# Altium schematic symbol library CON_LIB.SchLib: 13 symbols
Pins are listed as number, name and electrical type; pins without a type are passive.

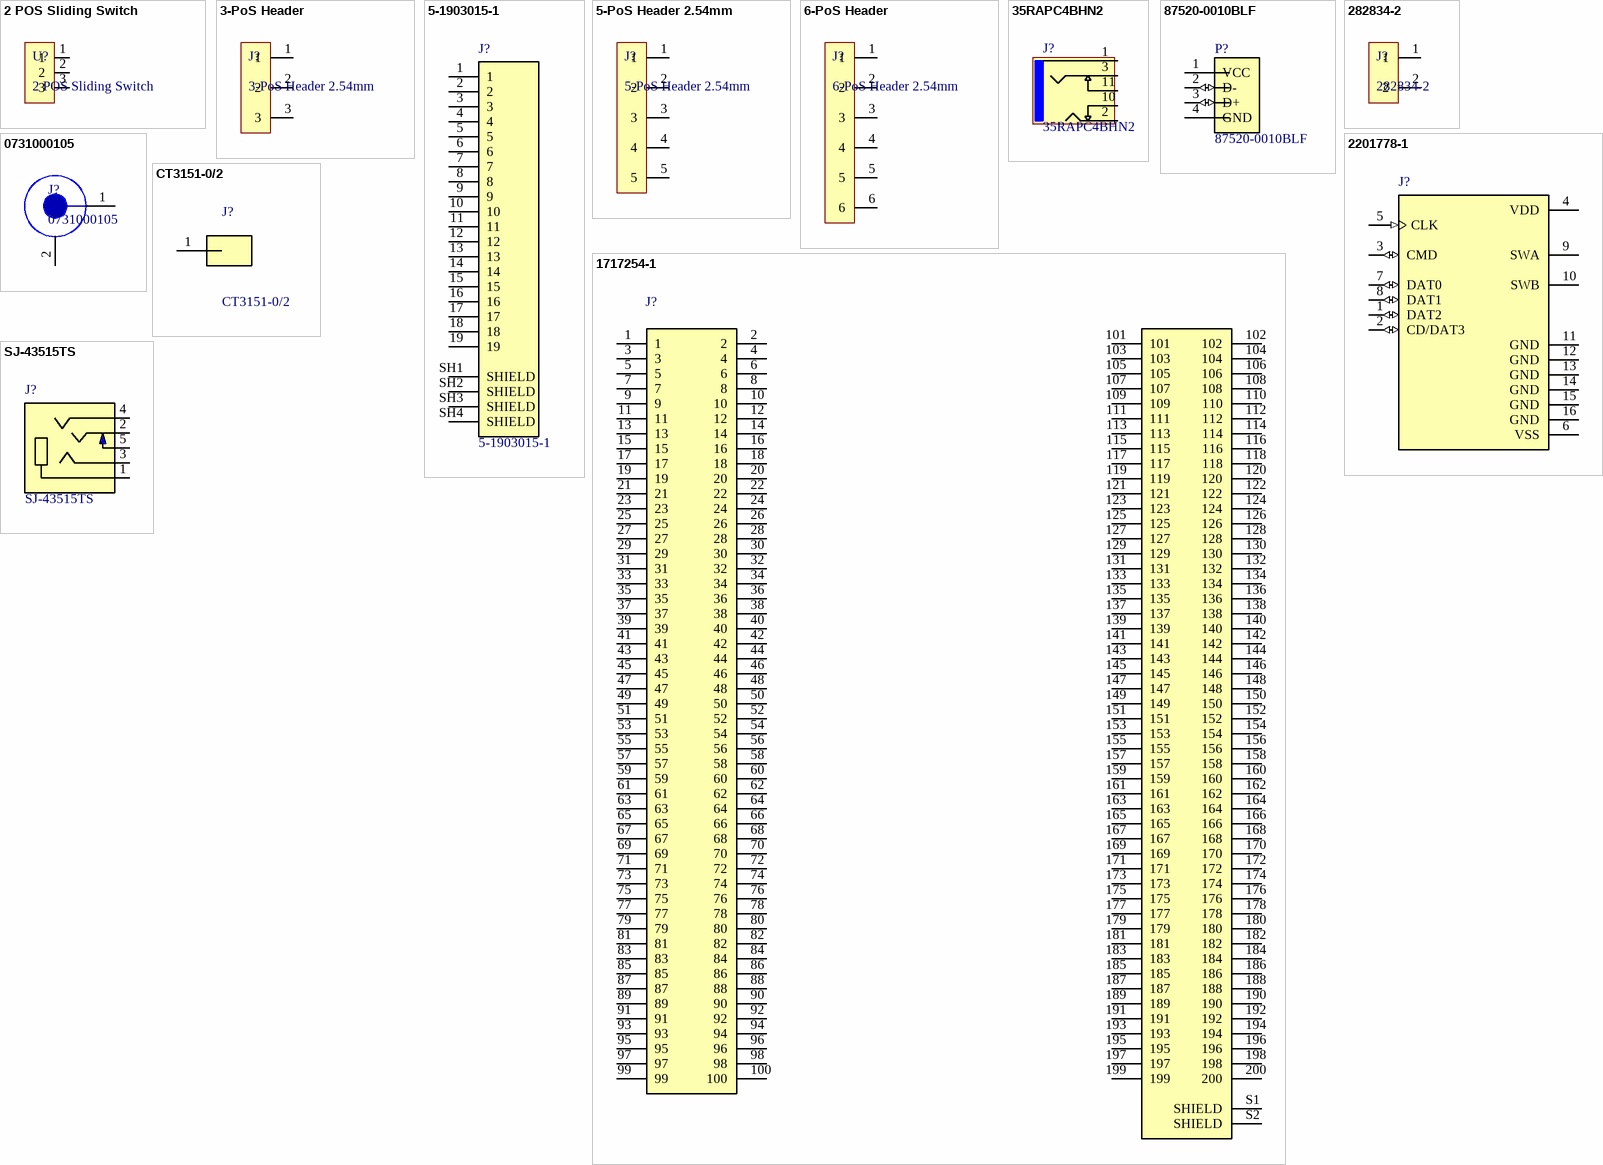
[diagram p0: symbols 2 POS Sliding Switch to SJ-43515TS]

## 2 POS Sliding Switch
designator U?
footprint 2 POS Sliding switch
pins: 1, 2, 3

## 3-PoS Header
designator J?, comment 3-PoS Header 2.54mm
footprint 3-POS 2.54mm Pitch Header - duplicate (2.54mm Pitch Header)
pins: 1, 2, 3

## 5-1903015-1
designator J?
Conn HDMI RCP 19 POS 0.5mm Solder RA SMD 19 Terminal 1 Port Embossed T/R; MF: TE Connectivity; Availability: Good; EU_RoHS_Compliance: Compliant; Price: 1.43 USD; Package: None; SnapEDA_Link: https://www.snapeda.com/parts/5-1903015-1/TE%20Connectivity%20AMP%20Connectors/view-part/?ref=snap; MP: 5-1903015-1; Link: http://www.te.com/usa-en/product-5-1903015-1.html; Value: *
footprint TE_5-1903015-1_5-1903015-1(Primary)
pins: 1, 2, 3, 4, 5, 6, 7, 8, 9, 10, 11, 12, 13, 14, 15, 16, 17, 18, 19, SH1 SHIELD, SH2 SHIELD, SH3 SHIELD, SH4 SHIELD

## 5-PoS Header 2.54mm
designator J?
footprint 2.54mm Pitch Header
pins: 1, 2, 3, 4, 5

## 6-PoS Header
designator J?, comment 6-PoS Header 2.54mm
footprint 6-POS 2.54mm Pitch Header - duplicate - duplicate (2.54mm Pitch Header)
pins: 1, 2, 3, 4, 5, 6

## 35RAPC4BHN2
designator J?
Conn 3.5MM Stereo Jack F 5 POS Solder RA Thru-Hole 5 Terminal 1 Port; MF: Switchcraft; MP: 35RAPC4BHN2; Availability: Good; Package: None; Price: 0.98 USD; SnapEDA_Link: https://www.snapeda.com/parts/35RAPC4BHN2/Switchcraft%20Inc./view-part/?ref=snap; Value: *
footprint SWITCHCRAFT_35RAPC4BHN2
footprint SWITCHCRAFT_35RAPC4BHN2
pins: 1 SLEEVE, 2 TIP, 3 RING, 10 TSH, 11 RSH

## 87520-0010BLF
designator P?
87520 Series Single Port 4 Contact Unshielded Board Lock USB-A Receptacle; MF: Amphenol ICC; Digi-Key_Purchase_URL: https://www.digikey.com/product-detail/en/amphenol-fci/87520-0010BLF/609-1045-ND/1001359?utm_source=snapeda&utm_medium=aggregator&utm_campaign=symbol; Digi-Key_Part_Number: 609-1045-ND; Package: None; SnapEDA_Link: https://www.snapeda.com/parts/87520-0010BLF/Amphenol%20ICC/view-part/?ref=snap; MP: 87520-0010BLF; Value: *
footprint FCI_87520-0010BLF
footprint FCI_87520-0010BLF
pins: 1 VCC (power), 2 D- (io), 3 D+ (io), 4 GND (power)

## 282834-2
designator J?
TERM BLK 2P SIDE ENT 2.54MM PCB
footprint 282834-2 (2 Position Wire to Board Terminal Block Horizonta)
pins: 1, 2

## 1717254-1
designator J?  (value not drawn)
EMBOSS ASS'Y DDR SODIMM SOCKET; Centerline_Pitch: .6 mm[.024 in]; MF: TE Connectivity; Number_of_Positions: 200; Product_Type: Socket; EU_RoHS_Compliance: Compliant; Digi-Key_Part_Number: A111047CT-ND; Package: None; Digi-Key_Purchase_URL: https://www.digikey.com/product-detail/en/te-connectivity-amp-connectors/1717254-1/A111047CT-ND/4142431?utm_source=snapeda&utm_medium=aggregator&utm_campaign=symbol; SnapEDA_Link: https://www.snapeda.com/parts/1717254-1/TE%20Connectivity%20AMP%20Connectors/view-part/?ref=snap; MP: 1717254-1; Link: http://www.te.com/usa-en/product-1717254-1.html; Value: *
footprint TE_1717254-1_1717254-1(Primary)
pins: 1, 2, 3, 4, 5, 6, 7, 8, 9, 10, 11, 12, 13, 14, 15, 16, 17, 18, 19, 20, 21, 22, 23, 24, 25, 26, 27, 28, 29, 30, 31, 32, 33, 34, 35, 36, 37, 38, 39, 40, 41, 42, 43, 44, 45, 46, 47, 48, 49, 50, 51, 52, 53, 54, 55, 56, 57, 58, 59, 60, 61, 62, 63, 64, 65, 66, 67, 68, 69, 70, 71, 72, 73, 74, 75, 76, 77, 78, 79, 80, 81, 82, 83, 84, 85, 86, 87, 88, 89, 90, 91, 92, 93, 94, 95, 96, 97, 98, 99, 100, 101, 102, 103, 104, 105, 106, 107, 108, 109, 110, 111, 112, 113, 114, 115, 116, 117, 118, 119, 120, 121, 122, 123, 124, 125, 126, 127, 128, 129, 130, 131, 132, 133, 134, 135, 136, 137, 138, 139, 140, 141, 142, 143, 144, 145, 146, 147, 148, 149, 150, 151, 152, 153, 154, 155, 156, 157, 158, 159, 160, 161, 162, 163, 164, 165, 166, 167, 168, 169, 170, 171, 172, 173, 174, 175, 176, 177, 178, 179, 180, 181, 182, 183, 184, 185, 186, 187, 188, 189, 190, 191, 192, 193, 194, 195, 196, 197, 198, 199, 200, S1 SHIELD, S2 SHIELD

## 2201778-1
designator J?  (value not drawn)
MICRO SD PUSH PUSH LOW PROFILE TYPE; Number_of_Positions: 8; Centerline_Pitch: 1.1 mm[.04 in]; MF: TE Connectivity; Product_Type: Removable Memory Products; MP: 2201778-1; Link: http://www.te.com/usa-en/product-2201778-1.html; SnapEDA_Link: https://www.snapeda.com/parts/2201778-1/TE%20Connectivity%20AMP%20Connectors/view-part/?ref=snap; Price: 2.18 USD; EU_RoHS_Compliance: Compliant; Package: None; Availability: Good; Value: *
footprint TE_2201778-1
pins: 1 DAT2 (io), 2 CD/DAT3 (io), 3 CMD (io), 4 VDD (power), 5 CLK (in), 6 VSS (power), 7 DAT0 (io), 8 DAT1 (io), 9 SWA, 10 SWB, 11 GND (power), 12 GND (power), 13 GND (power), 14 GND (power), 15 GND (power), 16 GND (power)

## 0731000105
designator J?
BNC Connector Jack, Female Socket 50Ohm Through Hole, Right Angle Solder
footprint 0731000105 (BNC Connector Jack, Female Socket 50Ohm Through Hole, Right Angle Solder)
pins: 1, 2

## CT3151-0/2
designator J?
CONN BANANA JACK SOLDER BLACK; MF: Cal Test Electronics; Digi-Key_Purchase_URL: https://www.digikey.com/product-detail/en/cal-test-electronics/CT3151-0/BKCT3151-0-ND/6005441; Digi-Key_Part_Number: BKCT3151-0-ND; Package: None; SnapEDA_Link: CT3151-2; MP: CT3151-0	/2; Value: *
footprint CT3151-0/2 (CONN BANANA JACK SOLDER)
pins: 1 (power)

## SJ-43515TS
designator J?
4 Conductor PCB Mount Low Profile 3.5 mm Audio Jack; MF: CUI; MP: SJ-43515TS; Package: None; Availability: Good; SnapEDA_Link: https://www.snapeda.com/parts/SJ-43515TS/CUI/view-part/?ref=snap; Price: 0.73 USD; Value: *
footprint CUI_SJ-43515TS
footprint CUI_SJ-43515TS
pins: 1 SLEEVE, 2 TIP, 3 RING1, 4 RING2, 5 TIP_SWITCH